# Altium schematic symbol library Logic.SchLib: 1 symbol
Pins are listed as number, name and electrical type; pins without a type are passive.

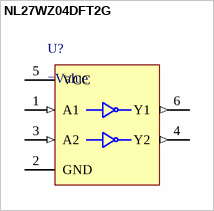
[diagram p0: symbol NL27WZ04DFT2G]

## NL27WZ04DFT2G
designator U?
Hi-speed 2 channel Logic Inverter; Mfr_Name: onsemi; Manufacturer_Part_Number: NL27WZ04DFT2G; Copyright: Copyright (C) 2022 Ultra Librarian. All rights reserved.; RefDes: RefDes; Type: DEV; Full Part Number: NL27WZ04DFT2G
footprint SC70-6_ONS
pins: 1 A1 (in), 2 GND (power), 3 A2 (in), 4 Y2 (out), 5 VCC (power), 6 Y1 (out)